# Altium schematic symbol library ummm.SchLib: 5 symbols
Pins are listed as number, name and electrical type; pins without a type are passive.

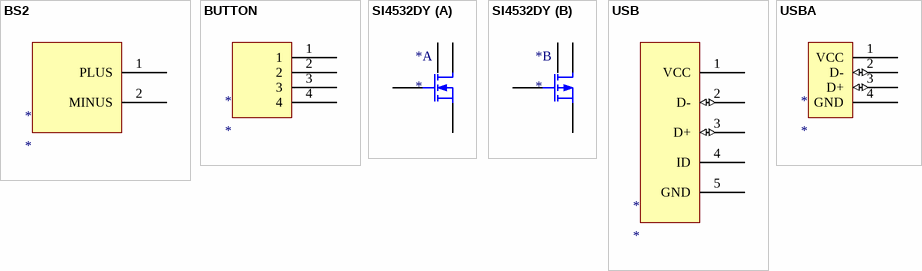
[diagram p0: symbols BS2 to USBA]

## BS2
designator *
footprint PCBComponent_1
pins: 1 PLUS, 2 MINUS

## BUTTON
designator *
footprint B3FS_SWITCH
pins: 1, 2, 3, 4

## SI4532DY
designator *
footprint SOIC127P600-8L (SOIC, 8-Leads, Body 4.9x3.9mm, Pitch 1.27mm, IPC High Density)
part A pins: 1 S1, 2 G1, 7 D1, 8 D1
part B pins: 3 S2, 4 G2, 5 D2, 6 D2

## USB
designator *
footprint USB/SM0.8-6H5 (Connector; USB2.0, Type B, SM; 5 Position; Right Angle)
pins: 1 VCC (power), 2 D- (io), 3 D+ (io), 4 ID, 5 GND (power)

## USBA
designator *
footprint USB2.5-2H4C (Connector; USB1.1, Type A, Thru-Hole; 4 Position; Right Angle)
footprint USB2.5-2V4A (Connector; USB1.1, Type A, Thru-Hole; 4 Position; Vertical)
pins: 1 VCC (power), 2 D- (io), 3 D+ (io), 4 GND (power)